# Altium footprint library Sprite.PCBLIB: 71 footprints (part 1 of 5)
Each footprint in its own frame and in the unit in brackets; x right, y up, seen from the top. Pads: shape width x height; smd on the part's side, far side on the other; paste and mask are expansions set on the pad; w line width, h text height; cw(c..) or ccw(c..) is an arc to the next point about the centre after c.
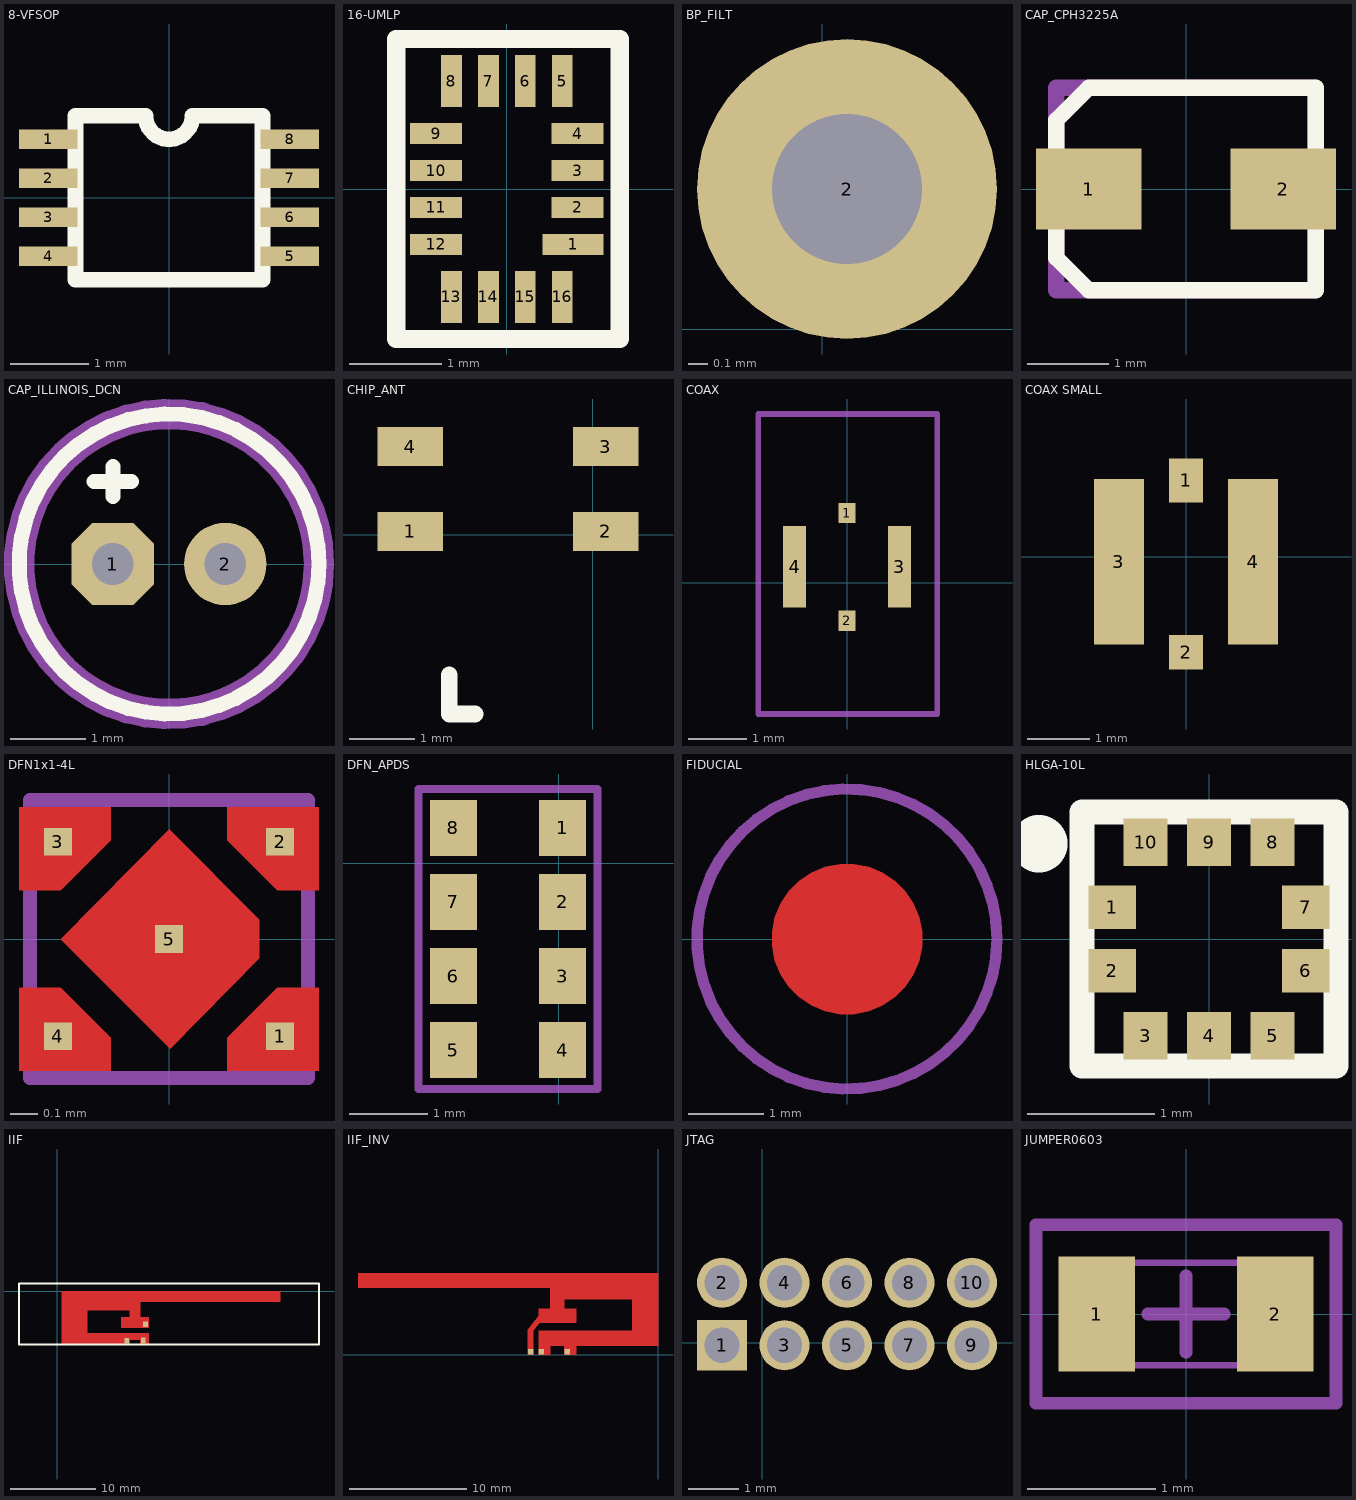
[diagram p0: the footprints below, top view; thin cyan lines are the x and y axes]

## 8-VFSOP [mm]
pads (8):
  rect 0.75x0.25 smd mask+0.05: 1(-1.55,0.75) 2(-1.55,0.25) 3(-1.55,-0.25) 4(-1.55,-0.75) 5(1.55,-0.75) 6(1.55,-0.25) 7(1.55,0.25) 8(1.55,0.75)
Top Overlay:
  lines w0.2: -1.2,-1.05 1.2,-1.05 1.2,1.05 0.3,1.05 cw(c0,1.05) -0.3,1.05 -1.2,1.05 -1.2,-1.05
3D body: height 1, standoff 0, extent -1.2,-1.05 1.2,1.05

## 16-UMLP [mm]
pads (16):
  rect 0.663x0.225 smd paste-0.025 mask+0.062: 1(0.717,-0.6)
  rect 0.563x0.225 smd paste-0.025 mask+0.062: 2(0.767,-0.2) 3(0.767,0.2) 4(0.767,0.6) 9(-0.767,0.6) 10(-0.767,0.2) 11(-0.767,-0.2) 12(-0.767,-0.6)
  rect 0.225x0.563 smd paste-0.025 mask+0.062: 5(0.6,1.169) 6(0.2,1.169) 7(-0.2,1.169) 8(-0.6,1.169) 13(-0.6,-1.168) 14(-0.2,-1.168) 15(0.2,-1.168) 16(0.6,-1.168)
Top Overlay:
  lines w0.2: -1.2,-1.625 1.225,-1.625 1.225,1.625 -1.2,1.625 -1.2,-1.625
3D body: height 1, standoff 0, extent -0.9,-1.3 0.9,1.3

## BP_FILT [mil] "LFB182G45BG5D920"
pads (1):
  round 60 hole 30: 2(5,28)

## CAP_CPH3225A [mm]
pads (2):
  rect 1.3x1 smd: 1(-1.2,0) 2(1.2,0)
Top Overlay:
  lines w0.2: -1.6,-0.85 -1.2,-1.25 1.6,-1.25 1.6,1.25 -1.2,1.25 -1.6,0.85 ; -1.6,-0.8 -1.6,0.8 ; 1.6,-0.85 1.6,-0.8
Mechanical 13:
  lines w0.2: -1.6,-1.25 -1.6,1.25 1.6,1.25 1.6,-1.25 -1.6,-1.25

## CAP_ILLINOIS_DCN [mm] "Supercapacitor Radial Can"
height 12.5
pads (2):
  oct 1.1x1.1 hole 0.559: 1(-0.75,0)
  round 1.1 hole 0.559: 2(0.75,0)
Top Overlay:
  circle w0.2: c0,0 r2
  lines w0.2: -1,1.1 -0.5,1.1 ; -0.75,0.9 -0.75,1.3
Mechanical 1:
  circle w0.406: c0,0 r2
3D body: height 12.5, standoff 0, extent -2.05,-2 1.95,2

## CHIP_ANT [mm] "4 MM x 2 MM JOHANSON"
pads (4):
  rect 1x0.6 smd: 1(-2.8,0.05) 2(0.2,0.05) 3(0.2,1.35) 4(-2.8,1.35)
Top Overlay:
  lines w0.254: -2.2,-2.15 -2.2,-2.75 -2.1,-2.75 -1.9,-2.75 -1.8,-2.75
3D body: height 1.2, standoff 0, extent -3.125,-0.1 0.425,1.5

## COAX [mm] "MM5829 COAX SOCK"
pads (4):
  rect 0.3x0.35 smd: 1(0,1.2) 2(0,-0.65)
  rect 0.4x1.4 smd: 3(0.9,0.275) 4(-0.9,0.275)
Mechanical 1:
  lines w0.1: -1.525,-2.25 -1.525,0.325 -1.525,2.9 1.55,2.9 1.55,-2.25 -1.5,-2.25
3D body: height 1, standoff 0, extent -1.275,-1 1.25,1.5

## COAX SMALL [mm] "MS-156HF"
pads (4):
  rect 0.55x0.7 smd: 1(0,1.225)
  rect 0.55x0.55 smd: 2(0,-1.525)
  rect 0.8x2.65 smd: 3(-1.075,-0.075) 4(1.075,-0.075)
3D body: height 1, standoff 0, extent -1.512,-1.825 1.513,1.575

## DFN1x1-4L [mm]
height 0.4
pads (5):
  rect 0.1x0.1 smd: 1(0.4,-0.35) 2(0.4,0.35) 3(-0.4,0.35) 4(-0.4,-0.35) 5(0,0)
Top Layer:
  region: 0.54,-0.475 0.21,-0.475 0.21,-0.355 0.39,-0.175 0.54,-0.175
  region: -0.54,-0.475 -0.21,-0.475 -0.21,-0.355 -0.39,-0.175 -0.54,-0.175
  region: -0.39,0 0,0.395 0.325,0.07 0.325,-0.07 0.005,-0.395
  region: 0.54,0.475 0.21,0.475 0.21,0.355 0.39,0.175 0.54,0.175
  region: -0.54,0.475 -0.21,0.475 -0.21,0.355 -0.39,0.175 -0.54,0.175
Mechanical 13:
  lines w0.05: -0.5,-0.5 0.5,-0.5 0.5,0.5 -0.5,0.5 -0.5,-0.5
3D body: height 0.4, standoff 0, extent -0.5,-0.5 0.5,0.5

## DFN_APDS [mm] "DFN SMT 8 PIN"
pads (8):
  rect 0.6x0.72 smd: 1(0.05,0.45) 2(0.05,-0.5) 3(0.05,-1.45) 4(0.05,-2.4) 5(-1.35,-2.4) 6(-1.35,-1.45) 7(-1.35,-0.5) 8(-1.35,0.45)
Mechanical 13:
  lines w0.1: -1.8,-2.9 -1.8,0.95 0.5,0.95 0.5,0.9 0.5,-2.9 -1.8,-2.9
3D body: height 1.35, standoff 0, extent -1.75,-2.85 0.45,0.9

## FIDUCIAL [mm] "1mm inner 2mm outer"
Top Layer:
  region: 0,-1 -0.098,-1 -0.292,-0.962 -0.474,-0.886 -0.637,-0.777 -0.777,-0.637 -0.886,-0.474 -0.962,-0.292 -1,-0.098 -1,0 -1,0.098 -0.962,0.292 -0.886,0.474 -0.777,0.637 -0.637,0.777 -0.474,0.886 -0.292,0.962 -0.098,1 0,1 0.098,1 0.292,0.962 0.474,0.886 0.637,0.777 0.777,0.637 0.886,0.474 0.962,0.292 1,0.098 1,0 1,-0.098 0.962,-0.292 0.886,-0.474 0.777,-0.637 0.637,-0.777 0.474,-0.886 0.292,-0.962 0.098,-1
Top Solder:
  region: 0,-2 -0.197,-2 -0.583,-1.923 -0.947,-1.772 -1.275,-1.554 -1.554,-1.275 -1.772,-0.947 -1.923,-0.583 -2,-0.197 -2,0 -2,0.197 -1.923,0.583 -1.772,0.947 -1.554,1.275 -1.275,1.554 -0.947,1.772 -0.583,1.923 -0.197,2 0,2 0.197,2 0.583,1.923 0.947,1.772 1.275,1.554 1.554,1.275 1.772,0.947 1.923,0.583 2,0.197 2,0 2,-0.197 1.923,-0.583 1.772,-0.947 1.554,-1.275 1.275,-1.554 0.947,-1.772 0.583,-1.923 0.197,-2
Mechanical 13:
  circle w0.15: c0,0 r2

## HLGA-10L [mm] "LPS22HB digital MEMS nano pressure sensor"
height 0.02
pads (10):
  rect 0.375x0.345 smd paste-0.015 mask+0.05: 1(-0.763,0.25) 2(-0.763,-0.25) 6(0.763,-0.25) 7(0.763,0.25)
  rect 0.345x0.375 smd paste-0.015 mask+0.05: 3(-0.5,-0.763) 4(0,-0.763) 5(0.5,-0.763) 8(0.5,0.763) 9(0,0.763) 10(-0.5,0.763)
Top Overlay:
  circle w0.406: c-1.34,0.75 r0.022
  lines w0.2: -1,-1 1,-1 1,1 -1,1 -1,-1
3D body: height 0.8, standoff 0, extent -1,-1 1,1

## IIF [mm] "PCB ANT 50 OHM"
pads (3):
  rect 0.55x0.7 smd paste+0 mask+0: 1(10.3,-3.85) 2(10.05,-5.775) 3(8.1,-5.825)
Top Layer:
  region: 0.5,-0.015 26.08,-0.015 26.08,-1.225 9.68,-1.225 9.68,-3.025 10.68,-3.025 10.68,-4.235 7.48,-4.235 7.48,-3.025 8.48,-3.025 8.48,-2.225 3.48,-2.225 3.48,-4.895 10.68,-4.895 10.68,-6.185 9.68,-6.185 9.68,-5.635 8.48,-5.635 8.48,-6.185 7.48,-6.185 0.5,-6.185
Top Overlay:
  lines w0.254: -4.5,0.8 -4.5,-6.2 30.6,-6.2 30.6,0.9 25.9,0.9 -4.5,0.9

## IIF_INV [mm] "PCB antenna flipped"
pads (3):
  rect 0.46x0.46 smd paste-10 mask-10: 1(-10.86,0.23) 2(-9.95,0.23) 3(-7.75,0.23)
Top Layer:
  region: 0,6.91 -25.58,6.91 -25.58,5.7 -9.18,5.7 -9.18,3.9 -10.18,3.9 -10.18,2.69 -6.98,2.69 -6.98,3.9 -7.98,3.9 -7.98,4.7 -2.18,4.7 -2.18,2.03 -10.18,2.03 -10.18,0 -9.18,0 -9.18,0.74 -7.98,0.74 -7.98,0 -6.98,0 -6.98,0.74 0,0.74
  region: -10.63,0 -11.09,0 -11.09,2.13 -9.993,3.527 -9.708,3.242 -10.63,2.03

## JTAG [mm] "JTAG HDR 10pin"
pads (10):
  rect 1x1 hole 0.7: 1(-0.8,-0.05)
  round 1 hole 0.7: 2(-0.8,1.2) 3(0.45,-0.05) 4(0.45,1.2) 5(1.7,-0.05) 6(1.7,1.2) 7(2.95,-0.05) 8(2.95,1.2) 9(4.2,-0.05) 10(4.2,1.2)

## JUMPER0603 [mm] "Surface Mount; Body 1.6 x 0.8 mm (LxW typ)"
height 0.8
pads (2):
  rect 0.6x0.9 smd: 1(-0.7,0) 2(0.7,0)
Mechanical 13:
  lines w0.051: -0.8,-0.4 -0.8,0.4 0.8,0.4 0.8,-0.4 -0.8,-0.4
  text ".Designator" at -0.65,-0.1 h0.3
Mechanical 15:
  lines w0.1: -0.3,0 0.3,0 ; 0,-0.3 0,0.3 ; -1.175,-0.7 -1.175,0.7 1.175,0.7 1.175,-0.7 -1.175,-0.7
3D body: height 0.8, standoff 0, extent -0.8,-0.4 0.8,0.4